# Altium footprint library Sensor-Transductor.PcbLib: 31 footprints (part 2 of 2)
Each footprint in its own frame and in the unit in brackets; x right, y up, seen from the top. Pads: shape width x height; smd on the part's side, far side on the other; paste and mask are expansions set on the pad; w line width, h text height; cw(c..) or ccw(c..) is an arc to the next point about the centre after c.
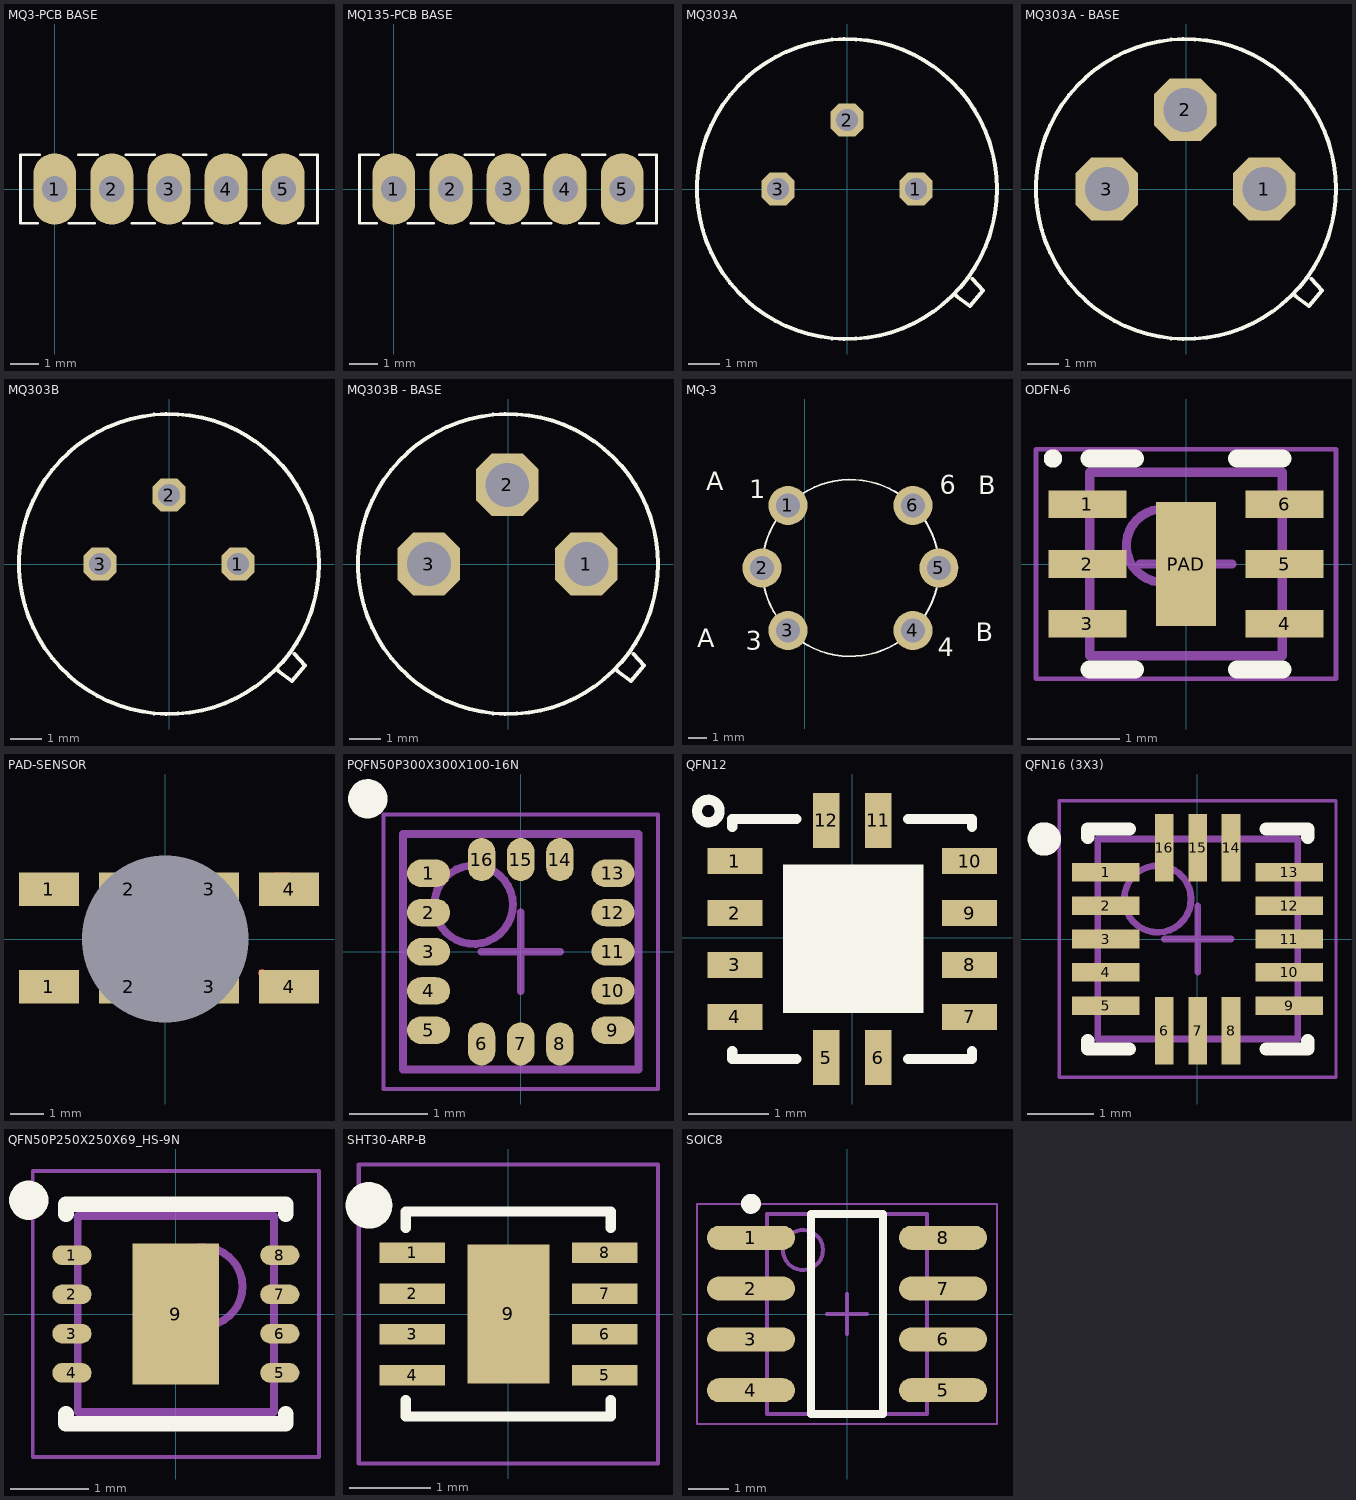
[diagram p1: the footprints below, top view; thin cyan lines are the x and y axes]

## MQ3-PCB BASE [mm]
pads (5):
  oval 1.5x2.5 hole 0.9: 1(0,0) 2(2,0) 3(4,0) 4(6,0) 5(8,0)
Top Overlay:
  lines w0.1: -0.6,-1.2 -1.2,-1.2 -1.2,1.2 -0.525,1.2 ; 0.5,-1.2 1.4,-1.2 ; 0.825,1.2 1.5,1.2 ; 2.5,1.2 3.5,1.2 ; 2.7,-1.2 3.5,-1.2 ; 4.5,-1.2 5.5,-1.2 ; 4.5,1.2 5.3,1.2 ; 6.5,-1.2 7.175,-1.2 ; 6.6,1.2 7.4,1.2 ; 8.525,-1.2 9.2,-1.2 9.2,1.2 8.6,1.2
3D body "TARJETA EXPANSION SENSOR 2.stp": height 24.83, standoff -2.39, extent -6.11,-11.325 13.96,4.075

## MQ135-PCB BASE [mm]
pads (5):
  oval 1.5x2.5 hole 0.9: 1(0,0) 2(2,0) 3(4,0) 4(6,0) 5(8,0)
Top Overlay:
  lines w0.1: -0.6,-1.2 -1.2,-1.2 -1.2,1.2 -0.525,1.2 ; 0.5,-1.2 1.4,-1.2 ; 0.825,1.2 1.5,1.2 ; 2.5,1.2 3.5,1.2 ; 2.7,-1.2 3.5,-1.2 ; 4.5,-1.2 5.5,-1.2 ; 4.5,1.2 5.3,1.2 ; 6.5,-1.2 7.175,-1.2 ; 6.6,1.2 7.4,1.2 ; 8.525,-1.2 9.2,-1.2 9.2,1.2 8.6,1.2
3D body "TARJETA EXPANSION SENSOR.stp": height 25.07, standoff -2.39, extent -6.12,-17.2 14.12,3.5

## MQ303A [mm]
pads (3):
  oct 1.05x1.05 hole 0.7: 1(2.2,0) 2(0,2.2) 3(-2.2,0)
Top Overlay:
  circle w0.127: c0,0 r4.784
  lines w0.127: 3.49,-3.41 3.92,-3.73 4.34,-3.24 4,-2.87
3D body "User Library-MQ303A.step": height 8.25, standoff -8, extent -4.7,-4.725 4.7,4.675

## MQ303A - BASE [mm]
pads (3):
  oct 2x2 hole 1.4: 1(2.5,0) 2(-0.025,2.525) 3(-2.525,0)
Top Overlay:
  circle w0.127: c0,0 r4.784
  lines w0.127: 3.49,-3.41 3.92,-3.73 4.34,-3.24 4,-2.87
3D body "User Library-MQ303A.step": height 11.25, standoff -5, extent -4.7,-4.725 4.697,4.675
3D body "socket_917-87-103-41-005101[1].stp": height 2.8, standoff -4.57, extent -5,-4.997 5,5

## MQ303B [mm]
pads (3):
  oct 1.05x1.05 hole 0.7: 1(2.2,0) 2(0,2.2) 3(-2.2,0)
Top Overlay:
  circle w0.127: c0,0 r4.784
  lines w0.127: 3.49,-3.41 3.92,-3.73 4.34,-3.24 4,-2.87
3D body "mq303b.step": height 6, standoff -8, extent -4.699,-4.7 4.699,4.7

## MQ303B - BASE [mm]
pads (3):
  oct 2x2 hole 1.4: 1(2.5,0) 2(-0.025,2.525) 3(-2.525,0)
Top Overlay:
  circle w0.127: c0,0 r4.784
  lines w0.127: 3.49,-3.41 3.92,-3.73 4.34,-3.24 4,-2.87
3D body "socket_917-87-103-41-005101[1].stp": height 2.8, standoff -4.57, extent -5,-4.997 5,5
3D body "mq303b.step": height 9, standoff -5, extent -4.698,-4.699 4.699,4.701

## MQ-3 [mm]
pads (6):
  round 2.1 hole 1.3: 1(-0.909,19.384) 2(-2.3,16.025) 3(-0.909,12.666) 4(5.808,12.666) 5(7.2,16.025) 6(5.809,19.384)
Top Overlay:
  circle w0.1: c2.45,16.025 r4.75
  text "1" at -3,19.775 h1
  text "6" at 7.25,20.025 h1
  text "4" at 7.15,11.275 h1
  text "3" at -3.175,11.625 h1
  text "A" at -5.3,20.2 h1
  text "A" at -5.8,11.775 h1
  text "B" at 9.325,19.975 h1
  text "B" at 9.175,12.075 h1
3D body "MQ-3.STEP": height 9.61, standoff -5.79, extent -6.2,7.375 11.1,24.675

## ODFN-6 [mm] "6 LEAD OPTICAL DUAL FLAT NO-LEAD PLASTIC PACKAGE (ODFN)"
height 0.75
pads (7):
  rect 0.85x0.3 smd: 1(-1.075,0.65) 2(-1.075,0) 3(-1.075,-0.65) 4(1.075,-0.65) 5(1.075,0) 6(1.075,0.65)
  rect 0.65x1.35 smd: PAD(0,0)
Top Overlay:
  circle w0.1: c-1.45,1.15 r0.05
  lines w0.2: -1.05,-1.15 -0.56,-1.15 ; -1.05,1.15 -0.56,1.15 ; 0.56,-1.15 1.05,-1.15 ; 0.56,1.15 1.05,1.15
Mechanical 13:
  circle w0.1: c-0.25,0.2 r0.4
  lines w0.1: -1.05,-1 1.05,-1 1.05,1 -1.05,1 -1.05,-1
Mechanical 15:
  lines w0.05: -1.635,-1.25 1.635,-1.25 1.635,1.25 -1.635,1.25 -1.635,-1.25
  lines w0.1: -0.5,0 0.5,0 ; 0,-0.5 0,0.5
3D body: height 0.75, standoff 0.08, extent -1.05,-1 1.05,1
3D body: height 0.75, standoff 0.08, extent 3.603,-0.91 5.703,1.09

## PAD-SENSOR [mm]
pads (9):
  rect 1.8x1 smd: 1(-3.486,-1.432) 1(-3.486,1.489) 2(-1.086,-1.432) 2(-1.086,1.489) 3(1.314,-1.432) 3(1.314,1.489) 4(3.714,-1.432) 4(3.714,1.489)
  round 0 hole 5 square: H(0,0)
Top Layer:
  lines w0.254: 2.914,-1.032 3.314,-1.432 3.714,-1.432 ; 3.314,1.87 3.714,1.87
3D body "PCB1.step": height 8.25, standoff -1.65, extent -5.05,-1.579 5.05,0.762

## PQFN50P300X300X100-16N [mm] "PQFN, 16-Leads, Body 3,00x3,00mm, Pitch 0,50mm, IPC Medium Density"
height 1
pads (16):
  oval 0.55x0.35 smd: 1(-1.175,1) 2(-1.175,0.5) 3(-1.175,0) 4(-1.175,-0.5) 5(-1.175,-1) 9(1.175,-1) 10(1.175,-0.5) 11(1.175,0) 12(1.175,0.5) 13(1.175,1)
  oval 0.35x0.55 smd: 6(-0.5,-1.175) 7(0,-1.175) 8(0.5,-1.175) 14(0.5,1.175) 15(0,1.175) 16(-0.5,1.175)
Top Overlay:
  circle w0.25: c-1.95,1.95 r0.125
Mechanical 13:
  circle w0.1: c-0.6,0.6 r0.5
  lines w0.1: -1.5,-1.5 -1.5,1.5 1.5,1.5 1.5,-1.5 -1.5,-1.5
Mechanical 15:
  lines w0.05: -1.75,-1.75 -1.75,1.75 1.75,1.75 1.75,-1.75 -1.75,-1.75
  lines w0.1: -0.5,0 0.5,0 ; 0,-0.5 0,0.5
3D body "PQFN50P300X300X100-16N.step": height 1, standoff 0, extent -1.5,-1.5 1.5,1.5

## QFN12 [mm]
pads (12):
  rect 0.686x0.33 smd: 1(-1.467,0.96) 2(-1.467,0.31) 3(-1.467,-0.34) 4(-1.467,-0.99) 7(1.468,-0.99) 8(1.468,-0.34) 9(1.468,0.31) 10(1.468,0.96)
  rect 0.33x0.686 smd: 5(-0.325,-1.498) 6(0.325,-1.498) 11(0.325,1.468) 12(-0.325,1.468)
Top Overlay:
  circle w0.127: c-1.8,1.585 r0.141
  rectangle: -0.864,-0.94 0.889,0.914
  lines w0.127: -1.5,-1.415 -1.5,-1.515 -0.7,-1.515 ; -1.5,1.385 -1.5,1.485 -0.7,1.485 ; 0.7,-1.515 1.5,-1.515 1.5,-1.415 ; 0.7,1.485 1.5,1.485 1.5,1.385
3D body: height 1.01, standoff 0, extent -1.214,0.917 -0.914,1.217
3D body: height 1, standoff 0, extent -1.499,-1.524 1.499,1.448

## QFN16 (3X3) [mm] "QFN, 16-Leads, Body 3.00x3.00mm, Pitch 0.50mm, IPC Medium Density"
height 1
pads (16):
  rect 1.012x0.28 smd mask+0.068: 1(-1.375,1.004) 2(-1.375,0.504) 3(-1.375,0.004) 4(-1.375,-0.496) 5(-1.375,-0.996) 9(1.375,-0.996) 10(1.375,-0.496) 11(1.375,0.004) 12(1.375,0.504) 13(1.375,1.004)
  rect 0.28x1.012 smd mask+0.068: 6(-0.496,-1.375) 7(0.004,-1.375) 8(0.504,-1.375) 14(0.504,1.375) 15(0.004,1.375) 16(-0.496,1.375)
Top Overlay:
  circle w0.25: c-2.296,1.504 r0.125
  lines w0.2: -1.646,-1.521 -1.646,-1.646 -1.021,-1.646 ; -1.646,1.529 -1.646,1.654 -1.021,1.654 ; 1.029,-1.646 1.654,-1.646 1.654,-1.521 ; 1.029,1.654 1.654,1.654 1.654,1.529
Mechanical 13:
  circle w0.1: c-0.596,0.604 r0.5
  lines w0.1: -1.496,-1.496 1.504,-1.496 1.504,1.504 -1.496,1.504 -1.496,-1.496
Mechanical 15:
  lines w0.05: -2.071,-2.071 2.079,-2.071 2.079,2.079 -2.071,2.079 -2.071,-2.071
  lines w0.1: -0.496,0.004 0.504,0.004 ; 0.004,-0.496 0.004,0.504
3D body "QFN16.step": height 1, standoff 0, extent -1.546,-1.546 1.554,1.554

## QFN50P250X250X69_HS-9N [mm] "QFN, 8-Leads, Body 2,50x2,50mm, Pitch 0,50mm, Thermal Pad 1,80x1,10mm, IPC Medium Density"
height 0.69
pads (9):
  oval 0.5x0.25 smd: 1(-1.325,0.75) 2(-1.325,0.25) 3(-1.325,-0.25) 4(-1.325,-0.75) 5(1.325,-0.75) 6(1.325,-0.25) 7(1.325,0.25) 8(1.325,0.75)
  rect 1.1x1.8 smd: 9(0,0)
Top Overlay:
  circle w0.25: c-1.875,1.45 r0.125
  lines w0.2: -1.4,-1.275 -1.4,-1.4 1.4,-1.4 1.4,-1.275 ; -1.4,1.275 -1.4,1.4 1.4,1.4 1.4,1.275
Assembly Top:
  circle w0.1: c0.35,0.35 r0.5
  lines w0.1: -1.25,-1.25 -1.25,1.25 1.25,1.25 1.25,-1.25 -1.25,-1.25
Courtyard Top:
  lines w0.05: -1.825,-1.825 -1.825,1.825 1.825,1.825 1.825,-1.825 -1.825,-1.825
  lines w0.1: -0.5,0 0.5,0 ; 0,-0.5 0,0.5
3D body "Sensirion_Humidity_SHT3x_STEP-file.STEP": height 0.9, standoff 0, extent -1.251,-1.251 1.251,1.251

## SHT30-ARP-B [mm]
pads (9):
  rect 0.8x0.25 smd mask+0.05: 1(-1.175,0.75) 2(-1.175,0.25) 3(-1.175,-0.25) 4(-1.175,-0.75) 5(1.175,-0.75) 6(1.175,-0.25) 7(1.175,0.25) 8(1.175,0.75)
  rect 1x1.7 smd mask+0.05: 9(0,0)
Top Overlay:
  circle w0.3: c-1.7,1.325 r0.135
  lines w0.127: -1.25,-1.05 -1.25,-1.25 1.25,-1.25 1.25,-1.05 ; -1.25,1.05 -1.25,1.25 1.25,1.25 1.25,1.05
Courtyard Top:
  lines w0.05: -1.825,-1.825 -1.825,1.825 1.825,1.825 1.825,-1.825 -1.825,-1.825
3D body "Sensirion_Humidity_SHT3x_STEP-file.STEP": height 0.9, standoff 0, extent -1.251,-1.251 1.251,1.251

## SOIC8 [mm] "SOIC, 8-Leads, Body 4.9x3.9mm, Pitch 1.27mm, IPC Medium Density"
height 1.75
pads (8):
  oval 2.2x0.6 smd: 1(-2.4,1.905) 2(-2.4,0.635) 3(-2.4,-0.635) 4(-2.4,-1.905) 5(2.4,-1.905) 6(2.4,-0.635) 7(2.4,0.635) 8(2.4,1.905)
Top Overlay:
  circle w0.25: c-2.4,2.755 r0.125
  lines w0.2: -0.9,-2.5 0.9,-2.5 0.9,2.5 -0.9,2.5 -0.9,-2.5
Mechanical 13:
  circle w0.1: c-1.1,1.6 r0.5
  lines w0.1: -2,-2.5 2,-2.5 2,2.5 -2,2.5 -2,-2.5
Mechanical 15:
  lines w0.05: -3.75,-2.75 3.75,-2.75 3.75,2.75 -3.75,2.75 -3.75,-2.75
  lines w0.1: -0.5,0 0.5,0 ; 0,-0.5 0,0.5
3D body "SOIC8-1.step": height 1.75, standoff 0, extent -3,-2.45 3,2.45